# Altium footprint library 2.45-ECM-XF.PcbLib: 58 footprints (part 4 of 4)
Each footprint in its own frame and in the unit in brackets; x right, y up, seen from the top. Pads: shape width x height; smd on the part's side, far side on the other; paste and mask are expansions set on the pad; w line width, h text height; cw(c..) or ccw(c..) is an arc to the next point about the centre after c.
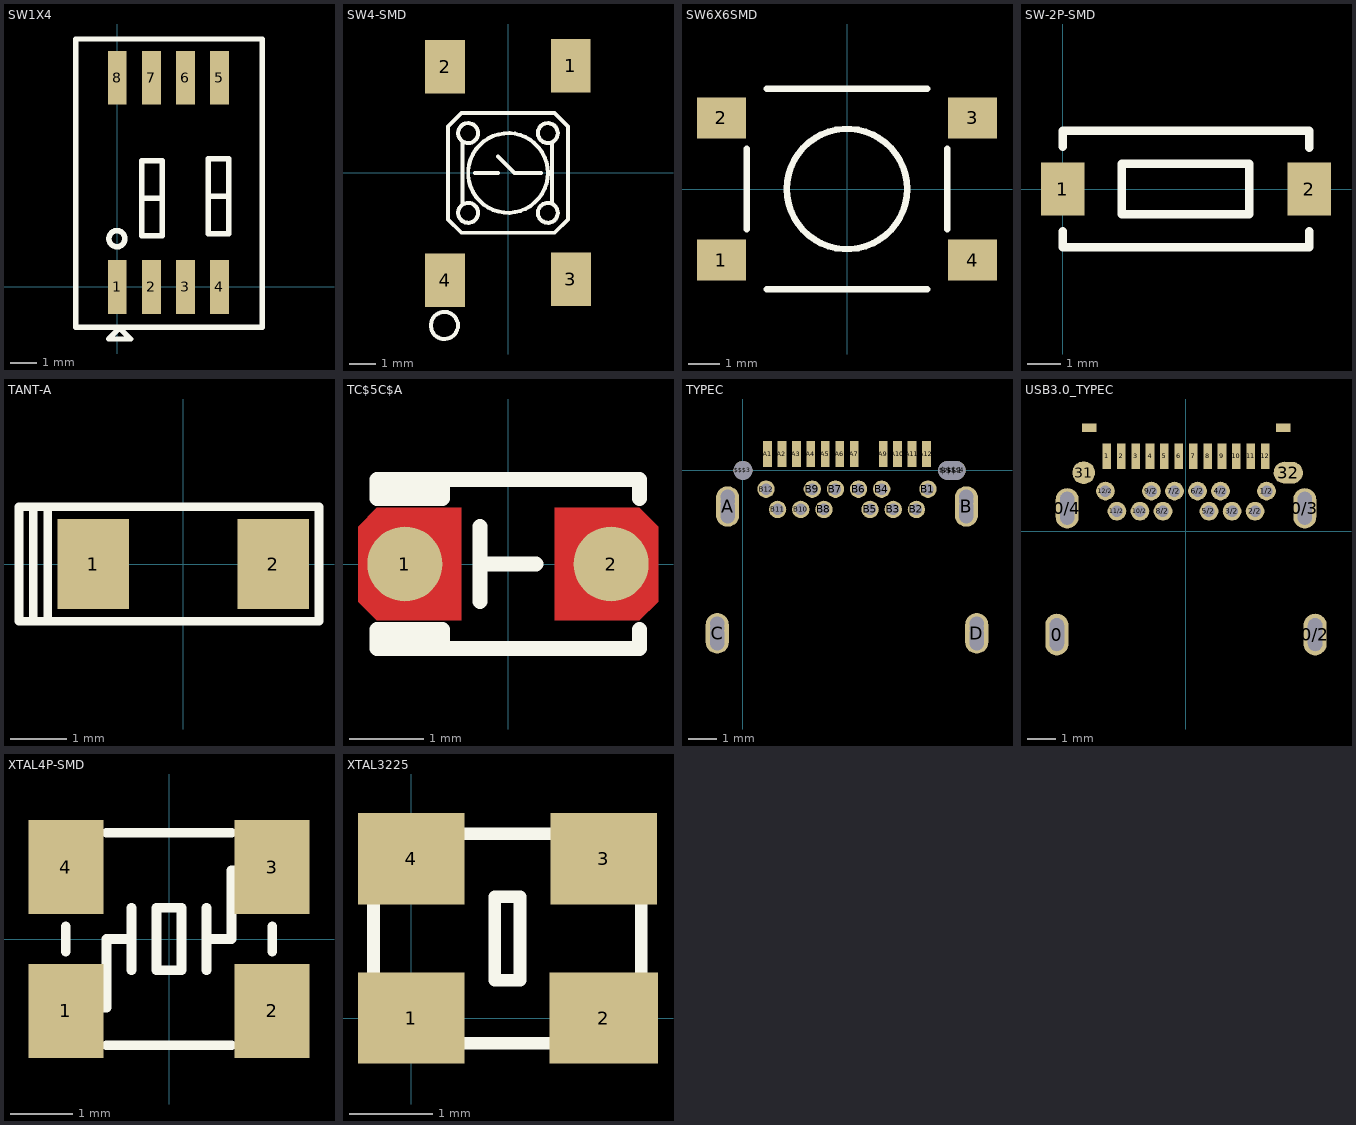
[diagram p3: the footprints below, top view; thin cyan lines are the x and y axes]

## SW1X4 [mm]
pads (8):
  rect 0.7x2 smd: 1(0,0) 2(1.27,0) 3(2.54,0) 4(3.81,0) 5(3.81,7.8) 6(2.54,7.8) 7(1.27,7.8) 8(0,7.8)
Top Overlay:
  circle w0.203: c-0.016,1.8 r0.3
  lines w0.203: -0.004,-1.624 -0.32,-1.94 0.495,-1.94 0.126,-1.571 ; 0.919,3.935 0.919,3.3 1.681,3.3 1.681,4.697 ; 1.046,4.697 1.681,4.697 ; 3.399,4.015 3.399,3.38 4.161,3.38 4.161,4.777 ; 3.526,4.777 4.161,4.777 ; 1.681,4.697 0.919,4.697 0.919,1.903 1.681,1.903 1.681,4.697 ; 4.161,4.777 3.399,4.777 3.399,1.983 4.161,1.983 4.161,4.777 ; -1.555,-1.5 -1.555,9.244 5.41,9.244 5.41,-1.5 -1.555,-1.5

## SW4-SMD [mm]
pads (4):
  rect 1.524x2.048 smd: 1(2.4,4.1) 2(-2.405,4.06) 3(2.405,-4.06) 4(-2.405,-4.1)
Top Overlay:
  circle w0.152: c-2.432,-5.831 r0.518
  circle w0.152: c-1.524,-1.524 r0.381
  circle w0.152: c1.524,-1.524 r0.381
  circle w0.152: c1.524,1.524 r0.381
  circle w0.152: c-1.524,1.524 r0.381
  circle w0.152: c0,0 r1.524
  lines w0.152: -1.748,-1.147 -1.748,1.189 ; -1.27,0 -0.381,0 ; -0.381,0.635 0.254,0 1.27,0 ; 1.677,-1.147 1.677,1.102 ; -2.286,-1.786 -2.286,1.786 -1.786,2.286 1.786,2.286 2.286,1.786 2.286,-1.786 1.786,-2.286 -1.786,-2.286 -2.286,-1.786

## SW6X6SMD [mm]
pads (4):
  rect 1.55x1.3 smd: 1(-3.975,-2.25) 2(-3.975,2.25) 3(3.975,2.25) 4(3.975,-2.25)
Top Overlay:
  circle w0.203: c0,0 r1.905
  lines w0.203: -3.175,-1.27 -3.175,1.27 ; -2.54,-3.175 2.54,-3.175 ; -2.54,3.175 2.54,3.175 ; 3.175,-1.27 3.175,1.27

## SW-2P-SMD [mm]
pads (2):
  rect 1.3x1.6 smd: 1(0,0) 2(7.4,0)
Top Overlay:
  lines w0.254: 0,-1.27 0,-1.75 7.4,-1.75 7.4,-1.27 ; 0,1.27 0,1.75 7.4,1.75 7.4,1.242 ; 1.778,-0.762 1.778,0.762 5.6,0.762 5.6,-0.762 1.778,-0.762

## TANT-A [mil]
pads (2):
  rect 50x63 smd: 1(-63,0) 2(63,0)
Top Overlay:
  lines w6: -105,-40 -105,40 ; -95,-40 -95,40 ; -115,-40 95,-40 95,40 -115,40 -115,-40

## TC$5C$A [mil]
pads (2):
  round 40 smd: 1(-55,0) 2(55,0)
Top Layer:
  region: 25,30 25,-30 70,-30 80,-20 80,20 70,30
  region: -70,30 -80,20 -80,-20 -70,-30 -25,-30 -25,30
Top Overlay:
  lines w8: -70,-40 -35,-40 -35,-35 -70,-35 -70,-45 70,-45 70,-35 ; -70,40 -35,40 -35,35 -70,35 -70,45 70,45 70,35 ; -15,-20 -15,20 ; -15,0 15,0
Top Paste:
  region: 25,30 25,-30 70,-30 80,-20 80,20 70,30
  region: -25,30 -70,30 -80,20 -80,-20 -70,-30 -25,-30
Top Solder:
  region: 25,30 25,-30 70,-30 80,-20 80,20 70,30
  region: -70,30 -80,20 -80,-20 -70,-30 -25,-30 -25,30

## TYPEC [mm]
pads (51):
  oval 0.95x0.65 hole 0.65: $$$1(7.23,0)
  round 0.65 hole 0.65: $$$2(7.081,-0.001) $$$3(0,0) $$$4(7.379,-0.001)
  round 0.5 hole 0.5: $$$5(-0.89,-5.983) $$$6(-0.89,-5.863) $$$7(-0.89,-5.731) $$$8(8.09,-5.299) $$$9(-0.89,-5.299) $$$10(7.73,-1.593) $$$11(8.09,-5.983) $$$12(7.73,-1.473) $$$13(8.09,-5.863) $$$14(8.09,-5.456) $$$15(-0.89,-5.456) $$$16(8.09,-5.731) $$$17(-0.53,-0.909) $$$18(-0.53,-1.066) $$$19(-0.53,-1.341) $$$20(-0.53,-1.473) $$$21(-0.53,-1.593) $$$22(7.73,-0.909) $$$23(7.73,-1.066) $$$24(7.73,-1.341)
  oval 0.8x1.4 hole 0.5: A(-0.53,-1.25) B(7.73,-1.25) C(-0.89,-5.64) D(8.09,-5.64)
  rect 0.3x0.9 smd: A1(0.85,0.56) A2(1.35,0.56) A3(1.85,0.56) A4(2.35,0.56) A5(2.85,0.56) A6(3.35,0.56) A7(3.85,0.56) A9(4.85,0.56) A10(5.35,0.56) A11(5.85,0.56) A12(6.35,0.56)
  round 0.6 hole 0.4: B1(6.4,-0.65) B2(6,-1.35) B3(5.2,-1.35) B4(4.8,-0.65) B5(4.4,-1.35) B6(4,-0.65) B7(3.2,-0.65) B8(2.8,-1.35) B9(2.4,-0.65) B10(2,-1.35) B11(1.2,-1.35) B12(0.8,-0.65)
Bottom Paste:
  lines w0.127: -0.815,-8.17 cw(c-0.768,-7.718) -1.189,-7.891 -1.2,1.7 -0.77,1.7 ; -0.815,-8.17 8.165,-8.17 -0.815,-8.17 ; -0.815,-8.17 -0.77,-8.17 -0.77,1.7 ; -0.77,1.7 8.12,1.7 ; 8.12,1.7 8.55,1.7 8.55,-7.811 cw(c8.151,-7.779) 8.119,-8.178 8.12,1.7

## USB3.0_TYPEC [mm]
height 1.6
pads (32):
  oval 0.8x1.45 hole 0.5 slot 1.143 at 90 deg: 0(-4.49,-3.595) 0/2(4.49,-3.595)
  oval 0.8x1.4 hole 0.5 slot 1.143 at 90 deg: 0/3(4.13,0.795) 0/4(-4.13,0.795)
  rect 0.3x0.9 smd: 1(-2.75,2.605) 2(-2.25,2.605) 3(-1.75,2.605) 4(-1.25,2.605) 5(-0.75,2.605) 6(-0.25,2.605) 7(0.25,2.605) 8(0.75,2.605) 9(1.25,2.605) 10(1.75,2.605) 11(2.25,2.605) 12(2.75,2.605)
  round 0.65 hole 0.4: 1/2(2.799,1.395) 2/2(2.4,0.695) 3/2(1.6,0.694) 4/2(1.2,1.395) 5/2(0.799,0.695) 6/2(0.4,1.395) 7/2(-0.4,1.394) 8/2(-0.8,0.694) 9/2(-1.201,1.395) 10/2(-1.601,0.695) 11/2(-2.401,0.695) 12/2(-2.8,1.395)
  round 0.787 smd: 31(-3.556,2.032)
  oval 1.016x0.762 smd rot 179: 32(3.556,2.032)
  rect 0.5x0.3 smd: $$$1(-3.37,3.595) $$$2(3.38,3.595)
Bottom Paste:
  drawing of 555 lines, arcs and shapes, not listed

## XTAL4P-SMD [mm]
pads (4):
  rect 1.2x1.5 smd: 1(-1.65,-1.15) 2(1.65,-1.15) 3(1.65,1.15) 4(-1.65,1.15)
Top Overlay:
  lines w0.152: -1.65,-0.2 -1.65,0.2 ; -1.2,-1.1 -1,-1.1 -1,0 -0.6,0 ; -1,-1.7 1,-1.7 ; -1,1.7 1,1.7 ; -0.6,-0.5 -0.6,0.5 ; 0.6,-0.5 0.6,0.5 ; 0.6,0 1,0 1,1.1 1.2,1.1 ; 1.65,-0.2 1.65,0.2 ; -0.2,-0.5 -0.2,0.5 0.2,0.5 0.2,-0.5 -0.2,-0.5

## XTAL3225 [mil]
pads (4):
  rect 50x43 smd: 1(0,0) 3(90.55,74.8) 4(0,74.8)
  rect 51x43 smd: 2(90.55,0)
Top Overlay:
  lines w5.91: -17.72,-11.81 -17.72,86.61 108.27,86.61 108.27,-11.81 -17.72,-11.81 ; 39.37,17.72 39.37,57.09 51.18,57.09 51.18,17.72 39.37,17.72
Top Paste:
  lines w5.91: 5.91,27.56 5.91,37.4 25.59,37.4 ; 29.53,17.72 29.53,57.09 ; 61.02,17.72 61.02,57.09 ; 64.96,37.4 84.65,37.4 84.65,47.24